# Altium schematic symbol library SN74AHC1G32DBVR.SchLib: 1 symbol
Pins are listed as number, name and electrical type; pins without a type are passive.

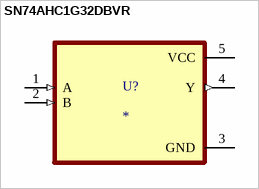
[diagram p0: symbol SN74AHC1G32DBVR]

## SN74AHC1G32DBVR
designator U?
Single 2-Input Positive-OR Gate 5-SOT-23 -40 to 125; MP: SN74AHC1G32DBVR; MF: Texas Instruments; SnapEDA_Link: https://www.snapeda.com/parts/SN74AHC1G32DBVR/Texas%20Instruments/view-part/45252/?ref=snap; Package: SOT-23-5 Texas Instruments; Check_prices: https://www.snapeda.com/parts/SN74AHC1G32DBVR/Texas%20Instruments/view-part/45252/?ref=eda; Value: *; Availability: In Stock; Price: None; Purchase-URL: https://pricing.snapeda.com/search/part/SN74AHC1G32DBVR/?ref=eda
pins: 1 A (in), 2 B (in), 3 GND (power), 4 Y (out), 5 VCC (power)